# Altium schematic symbol library E33-VT610-M01T.SchLib: 1 symbol
Pins are listed as number, name and electrical type; pins without a type are passive.

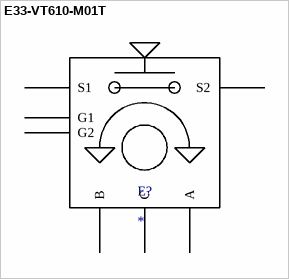
[diagram p0: symbol E33-VT610-M01T]

## E33-VT610-M01T
designator E?
PartNumber: E33-VT610-M01T; Manufacturer: Elma Electronics; PartDescription: MECHANICAL ENCODER W/ PUSH BUTTON; Package Type: 7 TH
footprint E33-VT610-M01T
pins: 1 B, 2 S1, 3 S2, 4 C, 5 A, 6 G1, 7 G2